# Altium footprint library syhaunguyen.PcbLib: 329 footprints (part 4 of 21)
Each footprint in its own frame and in the unit in brackets; x right, y up, seen from the top. Pads: shape width x height; smd on the part's side, far side on the other; paste and mask are expansions set on the pad; w line width, h text height; cw(c..) or ccw(c..) is an arc to the next point about the centre after c.
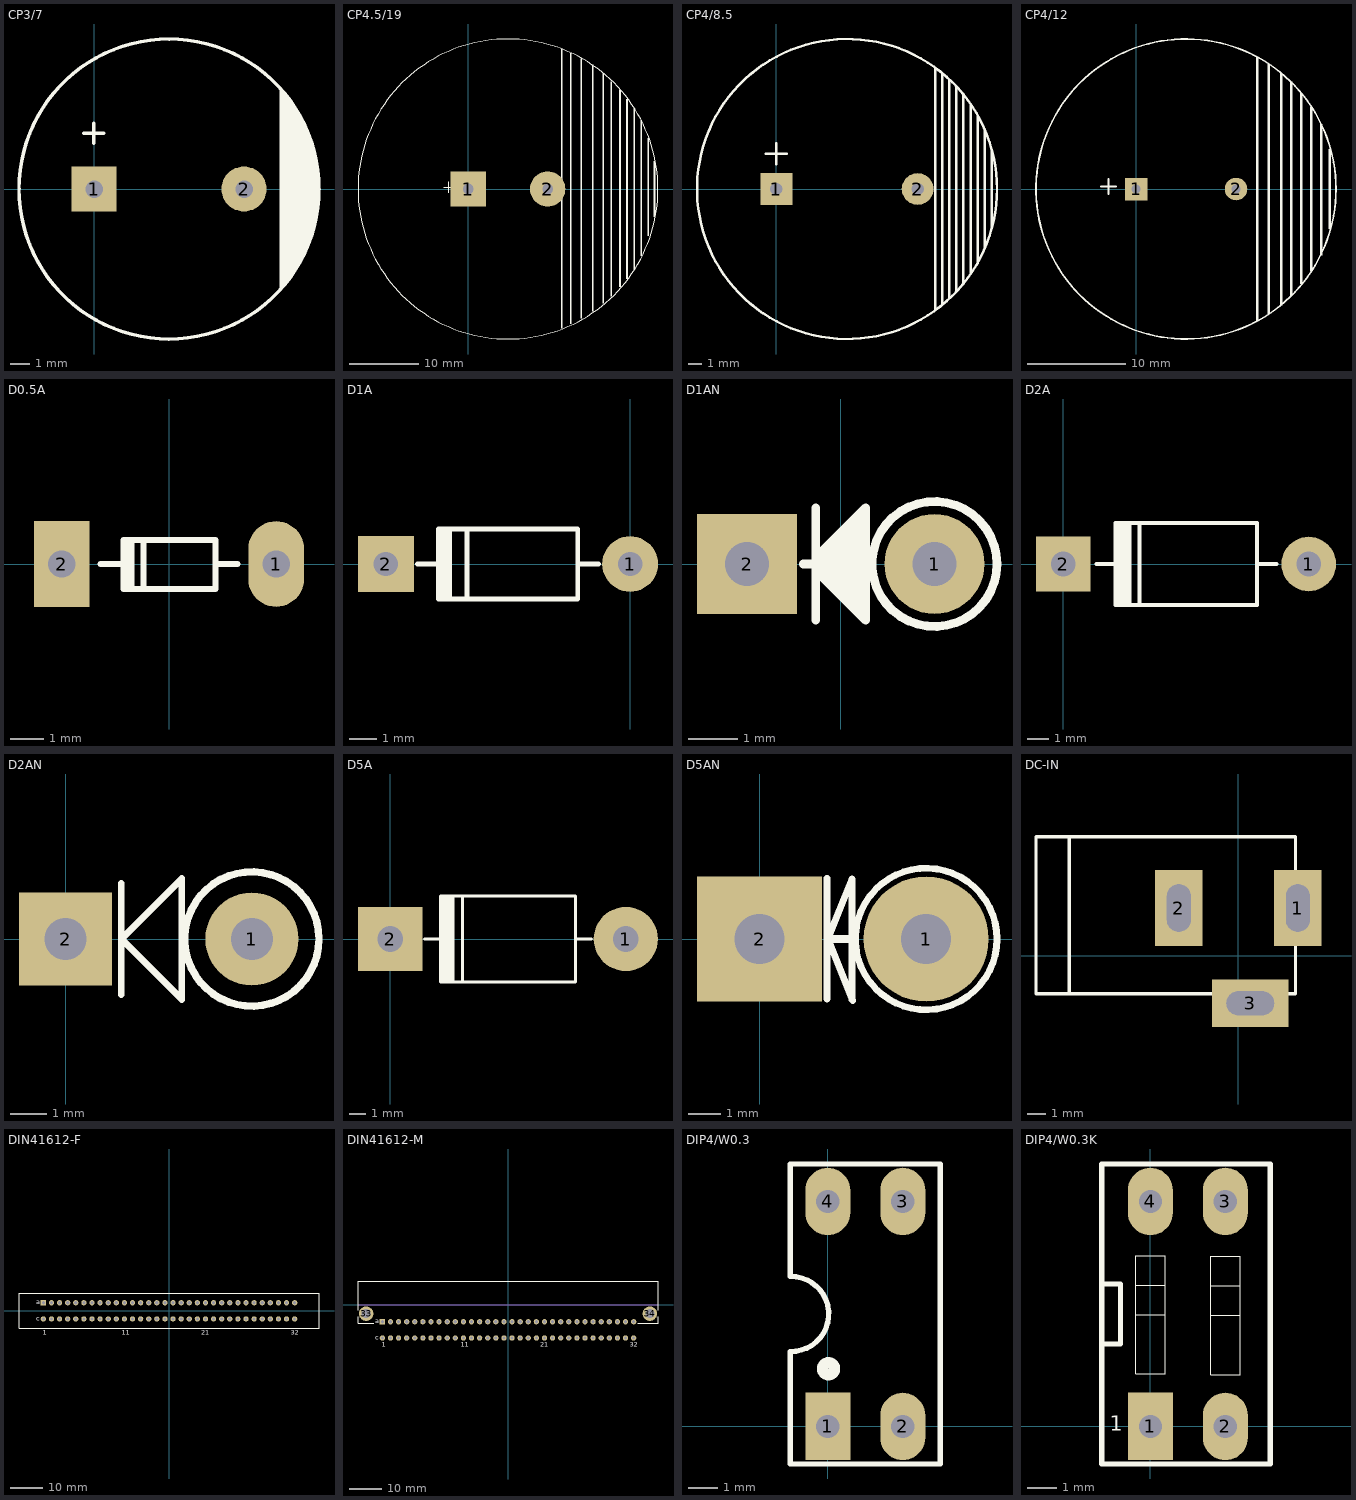
[diagram p3: the footprints below, top view; thin cyan lines are the x and y axes]

## CP3/7 [mil] "Tu hoa 4700uF/25V"
height 600
pads (2):
  rect 90x90 hole 35: 1(0,0)
  round 90 hole 35: 2(300,0)
Top Overlay:
  circle w7: c150,0 r300
  region: 425,112 433,96 442,79 447,39 450,-9 449,-34 442,-69 429,-115 397,-171 382,-191 371,-203 371,200 384.5,182.5 395,168 408,153
  lines w7: -21,112 19,112 ; -1,92 -1,132

## CP4.5/19 [mil] "Tu hoa 10,000uF/63V"
height 600
pads (2):
  rect 200x200 hole 60: 1(0,0)
  round 200 hole 60: 2(450,0)
Top Overlay:
  circle w7: c225,0 r850
  rectangle: 975,-380 985,390
  rectangle: 935,-455 945,455
  rectangle: 895,-510 905,510
  rectangle: 855,-555 865,560
  rectangle: 805,-610 815,610
  rectangle: 760,-650 770,655
  rectangle: 1015,-265 1025,290
  rectangle: 1050,-160 1060,160
  rectangle: 700,-695 710,705
  rectangle: 635,-735 645,740
  rectangle: 575,-765 585,770
  rectangle: 525,-790 535,795
  lines w7: -140,10 -80,10 ; -110,-20 -110,40

## CP4/8.5 [mil] "Tu hoa 4700uF/50V"
height 600
pads (2):
  rect 90x90 hole 35: 1(0,0)
  round 90 hole 35: 2(400,0)
Top Overlay:
  circle w7: c200,0 r425
  lines w7: -30,100 30,100 ; 0,70 0,130 ; 450,-340 450,340 ; 470,-325 470,325 ; 490,-310 490,310 ; 510,-290 510,290 ; 530,-265 530,265 ; 550,-240 550,240 ; 570,-210 570,205 ; 590,-165 590,170
  lines w8: 610,-110 610,110
3D body: height 984.25, standoff 0, extent -236.14,-438.07 630,428.07

## CP4/12 [mil] "Tu hoa 220uF/450V"
height 600
pads (2):
  rect 90x90 hole 35: 1(0,0)
  round 90 hole 35: 2(400,0)
Top Overlay:
  circle w7: c200,0 r600
  rectangle: 695,-330 705,330
  rectangle: 655,-380 665,385
  rectangle: 615,-425 625,430
  rectangle: 575,-465 585,465
  rectangle: 525,-500 535,500
  rectangle: 480,-530 490,530
  rectangle: 735,-265 745,260
  rectangle: 770,-160 780,160
  lines w7: -140,10 -80,10 ; -110,-20 -110,40

## D0.5A [mil] "Diode muoi, W 80mil, L 300mil"
height 80
pads (2):
  oval 65x100 hole 32: 1(125,0)
  rect 65x100 hole 32: 2(-125,0)
Top Overlay:
  rectangle: -55,-30 -40,25
  lines w7: -80,0 -53,0 ; -30,-29 -30,28 ; 54,0 80,0 ; -53,-29 -53,28 54,28 54,-29 -53,-29
3D body: height 61.22, standoff -50, extent -108.5,-32.96 108.5,32

## D1A [mil] "Diode 1A, W 100mil, L 350mil"
height 100
pads (2):
  round 80 hole 35: 1(0,0)
  rect 80x80 hole 35: 2(-350,0)
Top Overlay:
  rectangle: -275,-50 -255,50
  lines w7: -305,0 -275,0 ; -275,-16 -275,0 ; -275,21 -275,0 ; -234,-50 -234,47 ; -75,0 -45,0 ; -275,0 -275,50 -75,50 -75,-50 -275,-50 -275,0
3D body: height 84.5, standoff -100, extent -386.49,-33 34.49,36

## D1AN [mil] "Diode 1A, W 100mil, L 150mil"
height 100
pads (2):
  round 80 hole 35: 1(75,0)
  rect 80x80 hole 35: 2(-75,0)
Top Overlay:
  circle w7: c75,0 r50
  region: 20,40 20,-40 15,-40 -20,-5 -20,5
  lines w7: -30,0 -20,0 ; -20,-45 -20,45 ; -20,-5 -20,5 20,45 20,-45 -20,-5
3D body: height 252.32, standoff -78.14, extent -64,-50 104,55

## D2A [mil] "Diode 2A, W 150mil, L 450mil"
height 100
pads (2):
  round 100 hole 45: 1(450,0)
  rect 100x100 hole 45: 2(0,0)
Top Overlay:
  rectangle: 95,-75 125,75
  lines w7: 61,0 96,0 ; 96,-31 96,0 ; 96,32 96,0 ; 140,-75 140,75 ; 355,0 391,0 ; 96,-75 96,75 355,75 355,-75 96,-75
3D body: height 100.5, standoff -100, extent 5,-47 435,54

## D2AN [mil] "Diode 2A, W 150mil, L 450mil"
height 100
pads (2):
  round 100 hole 45: 1(200,0)
  rect 100x100 hole 45: 2(0,0)
Top Overlay:
  circle w8: c200,0 r72.11
  lines w7: 60,-60 60,60 ; 125,50 125,65 60,0 125,-65 125,55
3D body: height 252.32, standoff -78.14, extent 46.01,-49.99 214.01,55

## D5A [mil] "Diode 5A, W 200mil, L 550mil"
height 150
pads (2):
  round 150 hole 60: 1(550,0)
  rect 150x150 hole 60: 2(0,0)
Top Overlay:
  rectangle: 120,-100 150,100
  lines w7: 80,0 118,0 ; 118,-44 118,0 ; 118,46 118,0 ; 169,-99 169,100 ; 432,0 470,0 ; 118,-100 432,-100 432,100 118,100 118,-100
3D body: height 254.33, standoff -86.22, extent -51.87,-106 589.87,102.66

## D5AN [mil] "Diode 5A, W 200mil, L 250mil"
height 150
pads (2):
  round 150 hole 60: 1(200,0)
  rect 150x150 hole 60: 2(0,0)
Top Overlay:
  circle w8: c200,0 r85
  lines w8: 81,-72 81,73 ; 82,0 111,72 111,-73 ; 83,-2 112,-74
  lines w10: 82,0 113,0
3D body: height 252.32, standoff -78.14, extent 21,-73.99 189,31

## DC-IN [mil] "Jac DC input"
height 200
pads (3):
  rect 100x160 hole 50 slot 100 at 90 deg: 1(125,100) 2(-125,100)
  rect 160x100 hole 50 slot 100 at 0 deg: 3(25,-100)
Top Overlay:
  lines w7: -355,-80 -355,250 ; -425,-80 120,-80 120,250 -425,250 -425,-80
3D body: height 433.67, standoff -137.2, extent -410.35,-105.12 134,269.12

## DIN41612-F [mm] "Connector; DIN 41612, Type C, Thru-Hole; Rows a+c, 64 Position; Vertical; No Mounting Fixture"
height 13
pads (64):
  rect 1.65x1.65 hole 1: A1(-39.37,2.54)
  round 1.65 hole 1: A2(-36.83,2.54) A3(-34.29,2.54) A4(-31.75,2.54) A5(-29.21,2.54) A6(-26.67,2.54) A7(-24.13,2.54) A8(-21.59,2.54) A9(-19.05,2.54) A10(-16.51,2.54) A11(-13.97,2.54) A12(-11.43,2.54) A13(-8.89,2.54) A14(-6.35,2.54) A15(-3.81,2.54) A16(-1.27,2.54) A17(1.27,2.54) A18(3.81,2.54) A19(6.35,2.54) A20(8.89,2.54) A21(11.43,2.54) A22(13.97,2.54) A23(16.51,2.54) A24(19.05,2.54) A25(21.59,2.54) A26(24.13,2.54) A27(26.67,2.54) A28(29.21,2.54) A29(31.75,2.54) A30(34.29,2.54) A31(36.83,2.54) A32(39.37,2.54) C1(-39.37,-2.54) C2(-36.83,-2.54) C3(-34.29,-2.54) C4(-31.75,-2.54) C5(-29.21,-2.54) C6(-26.67,-2.54) C7(-24.13,-2.54) C8(-21.59,-2.54) C9(-19.05,-2.54) C10(-16.51,-2.54) C11(-13.97,-2.54) C12(-11.43,-2.54) C13(-8.89,-2.54) C14(-6.35,-2.54) C15(-3.81,-2.54) C16(-1.27,-2.54) C17(1.27,-2.54) C18(3.81,-2.54) C19(6.35,-2.54) C20(8.89,-2.54) C21(11.43,-2.54) C22(13.97,-2.54) C23(16.51,-2.54) C24(19.05,-2.54) C25(21.59,-2.54) C26(24.13,-2.54) C27(26.67,-2.54) C28(29.21,-2.54) C29(31.75,-2.54) C30(34.29,-2.54) C31(36.83,-2.54) C32(39.37,-2.54)
Top Overlay:
  lines w0.2: -47,-5.5 -47,5.5 47,5.5 47,-5.5 -47,-5.5
  text "21" at 10.18,-7.5 h1.5
  text "11" at -14.82,-7.5 h1.5
  text "32" at 38.12,-7.5 h1.5
  text "c" at -41.58,-3.04 h1.5
  text "a" at -41.58,2.04 h1.5
  text "1" at -39.62,-7.5 h1.5

## DIN41612-M [mm] "Connector; DIN 41612, Type C, Thru-Hole; Rows a+c, 64 Position; Right Angle"
height 11.1
pads (66):
  round 4.6 hole 2.8: 33(-44.45,-2.76) 34(44.45,-2.76)
  rect 1.65x1.65 hole 1: A1(-39.37,-5.3)
  round 1.65 hole 1: A2(-36.83,-5.3) A3(-34.29,-5.3) A4(-31.75,-5.3) A5(-29.21,-5.3) A6(-26.67,-5.3) A7(-24.13,-5.3) A8(-21.59,-5.3) A9(-19.05,-5.3) A10(-16.51,-5.3) A11(-13.97,-5.3) A12(-11.43,-5.3) A13(-8.89,-5.3) A14(-6.35,-5.3) A15(-3.81,-5.3) A16(-1.27,-5.3) A17(1.27,-5.3) A18(3.81,-5.3) A19(6.35,-5.3) A20(8.89,-5.3) A21(11.43,-5.3) A22(13.97,-5.3) A23(16.51,-5.3) A24(19.05,-5.3) A25(21.59,-5.3) A26(24.13,-5.3) A27(26.67,-5.3) A28(29.21,-5.3) A29(31.75,-5.3) A30(34.29,-5.3) A31(36.83,-5.3) A32(39.37,-5.3) C1(-39.37,-10.38) C2(-36.83,-10.38) C3(-34.29,-10.38) C4(-31.75,-10.38) C5(-29.21,-10.38) C6(-26.67,-10.38) C7(-24.13,-10.38) C8(-21.59,-10.38) C9(-19.05,-10.38) C10(-16.51,-10.38) C11(-13.97,-10.38) C12(-11.43,-10.38) C13(-8.89,-10.38) C14(-6.35,-10.38) C15(-3.81,-10.38) C16(-1.27,-10.38) C17(1.27,-10.38) C18(3.81,-10.38) C19(6.35,-10.38) C20(8.89,-10.38) C21(11.43,-10.38) C22(13.97,-10.38) C23(16.51,-10.38) C24(19.05,-10.38) C25(21.59,-10.38) C26(24.13,-10.38) C27(26.67,-10.38) C28(29.21,-10.38) C29(31.75,-10.38) C30(34.29,-10.38) C31(36.83,-10.38) C32(39.37,-10.38)
Top Overlay:
  lines w0.2: -47,-3.76 -47,-5.8 -42.07,-5.8 ; -47,-1.76 -47,7.34 47,7.34 47,-1.76 ; 40.595,-5.8 47,-5.8 47,-3.76
  text "1" at -39.62,-13.08 h1.5
  text "a" at -41.58,-5.8 h1.5
  text "c" at -41.58,-10.88 h1.5
  text "32" at 38.12,-13.08 h1.5
  text "11" at -14.845,-13.08 h1.5
  text "21" at 10.18,-13.08 h1.5
Mechanical 1:
  lines w0.1: -47,0 47,0
  text "PCB Edge" at -46.47,0.5 h0.6

## DIP4/W0.3 [mil] "4 PIN, W 300mil, Pin to pin 100mil"
height 100
pads (4):
  rect 60x90 hole 31: 1(0,0)
  oval 60x90 hole 31: 2(100,0) 3(100,300) 4(0,300)
Top Overlay:
  circle w15: c1,77 r8
  lines w7: -50.38,100.05 ccw(c-48.69,150.02) -50,200 ; -50,100 -50,-50 150,-50 150,350 -50,350 -50,201
3D body: height 169.69, standoff -129.13, extent -59.06,-10 159.06,304.96

## DIP4/W0.3K [mil] "4 PIN, W 400mil , L 450mil,Pin to pin 100mil"
height 100
pads (4):
  rect 60x90 hole 31: 1(0,0)
  oval 60x90 hole 31: 2(100,0) 3(100,300) 4(0,300)
Top Overlay:
  lines w1.5: -19.68,149 19.68,149 ; -19.68,188.37 19.68,188.37 ; 80.31,148 119.69,148 ; 80.31,187.37 119.69,187.37 ; -19.68,70.26 19.68,70.26 19.68,227.74 -19.68,227.74 -19.68,70.26 ; 80.31,69.26 119.69,69.26 119.69,226.74 80.31,226.74 80.31,69.26
  lines w7: -65,110 -40,110 -40,190 -65,190 ; -65,-50 160,-50 160,350 -65,350 -65,-50
  text "1" at -54,-6 h20
3D body: height 354.33, standoff -157.48, extent -66.22,-103.43 170,343.43